# Altium schematic symbol library CeramicCapacitors.SchLib: 24 symbols
Pins are listed as number, name and electrical type; pins without a type are passive.

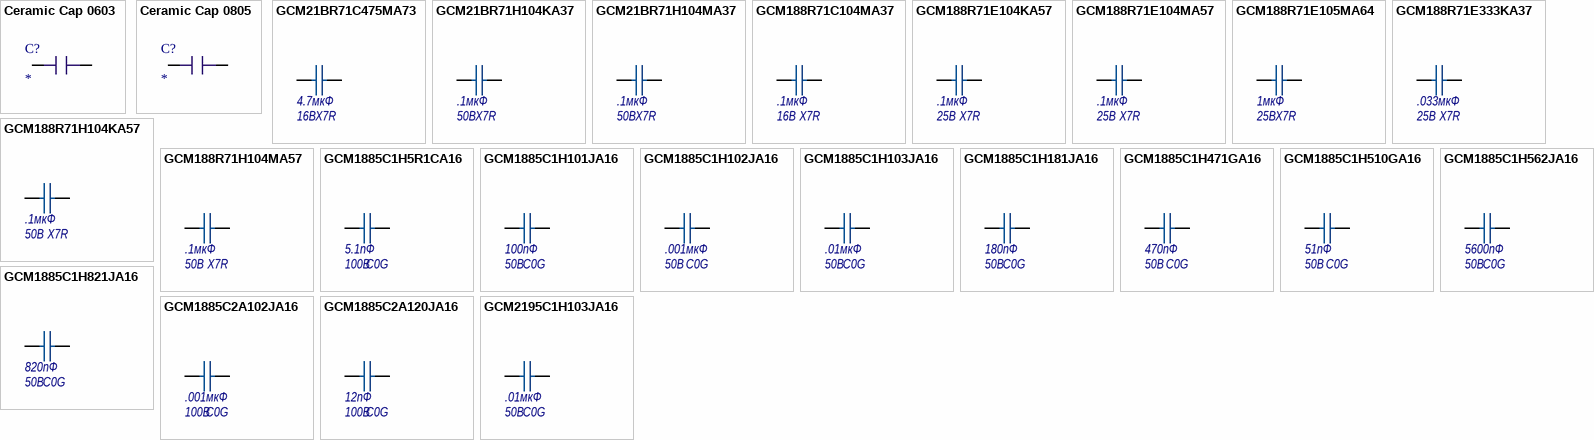
[diagram p0: symbols Ceramic Cap 0603 to GCM2195C1H103JA16]

## Ceramic Cap 0603
designator C?
Value: *; Dieletric: *; Tolerance: *; Voltage: *; Type: *
footprint CAP0603
pins: 1, 2

## Ceramic Cap 0805
designator C?
footprint CAP0805
pins: 1, 2

## GCM21BR71C475MA73
designator C?  value 4.7мкФ  ValueII: X7R  ValueI: 16В
ID: GCM21BR71C475MA73; ValueIII: 20%; Voltage: *
footprint CAP0805
pins: 1, 2

## GCM21BR71H104KA37
designator C?  value .1мкФ  ValueII: X7R  ValueI: 50В
ID: GCM21BR71H104KA37#; ValueIII: 10%; Voltage: *
footprint CAP0805
pins: 1, 2

## GCM21BR71H104MA37
designator C?  value .1мкФ  ValueII: X7R  ValueI: 50В
ID: GCM21BR71H104MA37#; ValueIII: 20%; Voltage: *
footprint CAP0805
pins: 1, 2

## GCM188R71C104MA37
designator C?  value .1мкФ  ValueII: X7R  ValueI: 16В
ID: GCM188R71C104MA37; ValueIII: 20%; Voltage: *
footprint CAP0603
pins: 1, 2

## GCM188R71E104KA57
designator C?  value .1мкФ  ValueII: X7R  ValueI: 25В
ID: GCM188R71E104KA57; ValueIII: 10%; Voltage: *
footprint CAP0603
pins: 1, 2

## GCM188R71E104MA57
designator C?  value .1мкФ  ValueII: X7R  ValueI: 25В
ID: GCM188R71E104MA57; ValueIII: 20%; Voltage: *
footprint CAP0603
pins: 1, 2

## GCM188R71E105MA64
designator C?  value 1мкФ  ValueII: X7R  ValueI: 25В
ID: GCM188R71E105MA64#; ValueIII: 20%; Voltage: *
footprint CAP0603
pins: 1, 2

## GCM188R71E333KA37
designator C?  value .033мкФ  ValueII: X7R  ValueI: 25В  (hidden comment: GCM188R71E333KA37)
ValueIII: 20%; ID: GCM188R71E333KA37; Voltage: *
footprint CAP0603
pins: 1, 2

## GCM188R71H104KA57
designator C?  value .1мкФ  ValueII: X7R  ValueI: 50В
ID: GCM188R71H104KA57; ValueIII: 10%; Voltage: *
footprint CAP0603
pins: 1, 2

## GCM188R71H104MA57
designator C?  value .1мкФ  ValueII: X7R  ValueI: 50В
ID: GCM188R71H104MA57; ValueIII: 20%; Voltage: *
footprint CAP0603
pins: 1, 2

## GCM1885C1H5R1CA16
designator C?  value 5.1пФ  ValueII: C0G  ValueI: 100В
ID: GCM1885C1H5R1CA16#; ValueIII: 0.25пФ; Voltage: *
footprint CAP0603
pins: 1, 2

## GCM1885C1H101JA16
designator C?  value 100пФ  ValueII: C0G  ValueI: 50В
ID: GCM1885C1H101JA16; ValueIII: 5%; Voltage: *
footprint CAP0603
pins: 1, 2

## GCM1885C1H102JA16
designator C?  value .001мкФ  ValueII: C0G  ValueI: 50В
ID: GCM1885C1H102JA16; ValueIII: 5%; Voltage: *
footprint CAP0603
pins: 1, 2

## GCM1885C1H103JA16
designator C?  value .01мкФ  ValueII: C0G  ValueI: 50В
ID: GCM1885C1H103JA16; ValueIII: 5%; Voltage: *
footprint CAP0603
pins: 1, 2

## GCM1885C1H181JA16
designator C?  value 180пФ  ValueII: C0G  ValueI: 50В
ID: GCM1885C1H181JA16; ValueIII: 5%; Voltage: *
footprint CAP0603
pins: 1, 2

## GCM1885C1H471GA16
designator C?  value 470пФ  ValueII: C0G  ValueI: 50В
ValueIII: 0.25пФ; ID: GCM1885C1H471GA16; Voltage: *
footprint CAP0603
pins: 1, 2

## GCM1885C1H510GA16
designator C?  value 51пФ  ValueII: C0G  ValueI: 50В
ValueIII: 0.25пФ; ID: GCM1885C1H510GA16; Voltage: *
footprint CAP0603
pins: 1, 2

## GCM1885C1H562JA16
designator C?  value 5600пФ  ValueII: C0G  ValueI: 50В
ID: GCM1885C1H562JA16; ValueIII: 5%; Voltage: *
footprint CAP0603
pins: 1, 2

## GCM1885C1H821JA16
designator C?  value 820пФ  ValueII: C0G  ValueI: 50В
ID: GCM1885C1H821JA16; ValueIII: 5%; Voltage: *
footprint CAP0603
pins: 1, 2

## GCM1885C2A102JA16
designator C?  value .001мкФ  ValueII: C0G  ValueI: 100В
ID: GCM1885C2A102JA16; ValueIII: 5%; Voltage: *
footprint CAP0603
pins: 1, 2

## GCM1885C2A120JA16
designator C?  value 12пФ  ValueII: C0G  ValueI: 100В
ID: GCM1885C2A120JA16; ValueIII: 5%; Voltage: *
footprint CAP0603
pins: 1, 2

## GCM2195C1H103JA16
designator C?  value .01мкФ  ValueII: C0G  ValueI: 50В
ID: GCM2195C1H103JA16; ValueIII: 5%
footprint CAP0805
pins: 1, 2